# Altium schematic symbol library DR-WiFi Servo.SchLib: 23 symbols
Pins are listed as number, name and electrical type; pins without a type are passive.

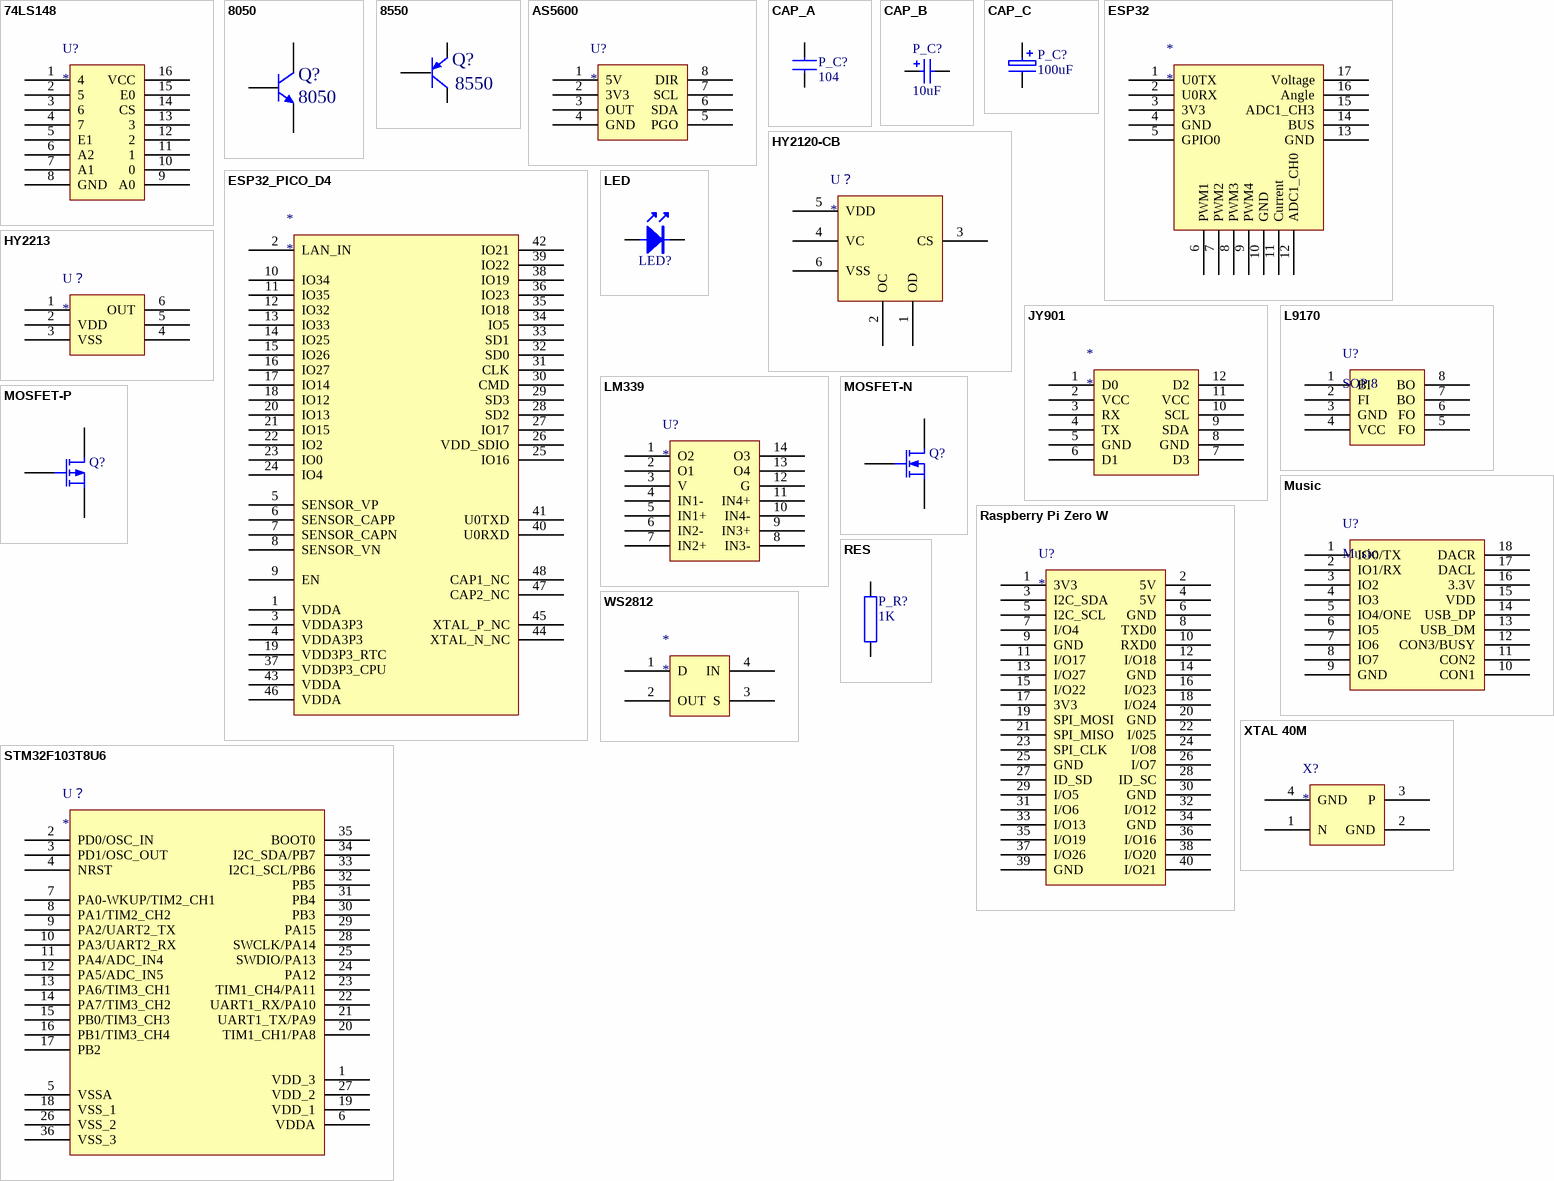
[diagram p0: symbols 74LS148 to XTAL 40M]

## 74LS148
designator U?
footprint LC-SOP-16_150mil
pins: 1 4, 2 5, 3 6, 4 7, 5 E1, 6 A2, 7 A1, 8 GND, 9 A0, 10 0, 11 1, 12 2, 13 3, 14 CS, 15 E0, 16 VCC

## 8050
designator Q?
NPN General Purpose Amplifier; Published: 8-Jun-2000; LatestRevisionDate: 15-Jan-2003; LatestRevisionNote: PCB Footprint 'BCY-W3/D4.7' replaced; DatasheetDocument: 1997; PackageDocument: Sep-1998; PackageReference: TO-92A; Publisher: Altium Limited; Code_JEDEC: TO-92A; ComponentLink1Description: Manufacturer Link; ComponentLink1URL: http://www.fairchildsemi.com/; ComponentLink2Description: Datasheet; ComponentLink2URL: http://www.fairchildsemi.com/ds/2N%2F2N3904.pdf
footprint TANS (TO, Flat Index; 3 In-Line, Axial Leads; Body Dia. 4.5mm; Leads 0.51 x 0.48 mm (max))
pins: 1 E, 2 B, 3 C

## 8550
designator Q?
PNP Transistor
footprint TANS (TO, Flat Index; 3 In-Line, Axial Leads; Body Dia. 4.5mm; Leads 0.51 x 0.48 mm (max))
pins: 1 E, 2 B, 3 C

## AS5600
designator U?
footprint SOP-8 1
pins: 1 5V, 2 3V3, 3 OUT, 4 GND, 5 PGO, 6 SDA, 7 SCL, 8 DIR

## CAP_A
designator P_C?, comment 104
Capacitor_0603
footprint Cap_0603
pins: 1, 2
2 alternate drawings of the same symbol

## CAP_B
designator P_C?  value 10uF  (hidden comment: CAP_B)
Polarized Capacitor (Radial); Published: 8-Jun-2000; LatestRevisionDate: 17-Jul-2002; LatestRevisionNote: Re-released for DXP Platform.; PackageReference: RB7.6-15; Publisher: Altium Limited; PackageDescription: Polarized Capacitor (Radial); 2 Leads
pins: 1, 2
1 alternate drawing of the same symbol

## CAP_C
designator P_C?, comment 100uF
Electrolytic Capacitor
pins: 1, 2

## ESP32
designator *
pins: 1 U0TX, 2 U0RX, 3 3V3, 4 GND, 5 GPIO0, 6 PWM1, 7 PWM2, 8 PWM3, 9 PWM4, 10 GND, 11 Current, 12 ADC1_CH0, 13 GND, 14 BUS, 15 ADC1_CH3, 16 Angle, 17 Voltage

## ESP32_PICO_D4
designator *
footprint LC-QFN-48_7x7x05P
footprint ESP32-PICO-D4
pins: 1 VDDA, 2 LAN_IN, 3 VDDA3P3, 4 VDDA3P3, 5 SENSOR_VP, 6 SENSOR_CAPP, 7 SENSOR_CAPN, 8 SENSOR_VN, 9 EN, 10 IO34, 11 IO35, 12 IO32, 13 IO33, 14 IO25, 15 IO26, 16 IO27, 17 IO14, 18 IO12, 19 VDD3P3_RTC, 20 IO13, 21 IO15, 22 IO2, 23 IO0, 24 IO4, 25 IO16, 26 VDD_SDIO, 27 IO17, 28 SD2, 29 SD3, 30 CMD, 31 CLK, 32 SD0, 33 SD1, 34 IO5, 35 IO18, 36 IO23, 37 VDD3P3_CPU, 38 IO19, 39 IO22, 40 U0RXD, 41 U0TXD, 42 IO21, 43 VDDA, 44 XTAL_N_NC, 45 XTAL_P_NC, 46 VDDA, 47 CAP2_NC, 48 CAP1_NC

## HY2120-CB
designator U？
footprint LC-SOT-23-6
pins: 1 OD, 2 OC, 3 CS, 4 VC, 5 VDD, 6 VSS

## HY2213
designator U？
footprint LC-SOT-23-6
pins: 1, 2 VDD, 3 VSS, 4, 5, 6 OUT

## JY901
designator *
footprint JY901
pins: 1 D0, 2 VCC, 3 RX, 4 TX, 5 GND, 6 D1, 7 D3, 8 GND, 9 SDA, 10 SCL, 11 VCC, 12 D2

## L9170
designator U?, comment SOP 8
footprint SOP-8 1
pins: 1 BI, 2 FI, 3 GND, 4 VCC, 5 FO, 6 FO, 7 BO, 8 BO

## LED
designator LED?  (value not drawn)
footprint LED_0603
pins: A 1, K 2
2 alternate drawings of the same symbol

## LM339
designator U?
footprint LC-SOP-14_150mil
pins: 1 O2, 2 O1, 3 V, 4 IN1-, 5 IN1+, 6 IN2-, 7 IN2+, 8 IN3-, 9 IN3+, 10 IN4-, 11 IN4+, 12 G, 13 O4, 14 O3

## MOSFET-N
designator Q?
N-Channel MOSFET; PackageDocument: 1995/1996; Published: 8-Jun-2000; LatestRevisionDate: 17-Jul-2002; LatestRevisionNote: Re-released for DXP Platform.; PackageReference: E3; Publisher: Altium Limited
footprint E3 (TO, Flat Index; 3 In-Line, Axial Leads; Body Dia. 4.6mm; Lead Dia. 0.5 mm (max))
simulation model NMOS (MOSFET-N)
pins: 1 D, 2 G, 3 S

## MOSFET-P
designator Q?
P-Channel MOSFET; PackageDocument: 1995/1996; Published: 8-Jun-2000; LatestRevisionDate: 17-Jul-2002; LatestRevisionNote: Re-released for DXP Platform.; PackageReference: E3; Publisher: Altium Limited
footprint E3 (TO, Flat Index; 3 In-Line, Axial Leads; Body Dia. 4.6mm; Lead Dia. 0.5 mm (max))
simulation model PMOS (MOSFET-P)
pins: 1 D, 2 G, 3 S

## Music
designator U?
footprint Music
pins: 1 IO0/TX, 2 IO1/RX, 3 IO2, 4 IO3, 5 IO4/ONE, 6 IO5, 7 IO6, 8 IO7, 9 GND, 10 CON1, 11 CON2, 12 CON3/BUSY, 13 USB_DM, 14 USB_DP, 15 VDD, 16 3.3V, 17 DACL, 18 DACR

## Raspberry Pi Zero W
designator U?
footprint 2.54 2*20PIN
pins: 1 3V3, 2 5V, 3 I2C_SDA, 4 5V, 5 I2C_SCL, 6 GND, 7 I/O4, 8 TXD0, 9 GND, 10 RXD0, 11 I/O17, 12 I/O18, 13 I/O27, 14 GND, 15 I/O22, 16 I/O23, 17 3V3, 18 I/O24, 19 SPI_MOSI, 20 GND, 21 SPI_MISO, 22 I/025, 23 SPI_CLK, 24 I/O8, 25 GND, 26 I/O7, 27 ID_SD, 28 ID_SC, 29 I/O5, 30 GND, 31 I/O6, 32 I/O12, 33 I/O13, 34 GND, 35 I/O19, 36 I/O16, 37 I/O26, 38 I/O20, 39 GND, 40 I/O21

## RES
designator P_R?, comment 1K
Resistor
footprint Res_0603
pins: 1 TOP, 2 BOT
2 alternate drawings of the same symbol

## STM32F103T8U6
designator U？
footprint LC-QFN-36_6x6x05P
pins: 1 VDD_3, 2 PD0/OSC_IN, 3 PD1/OSC_OUT, 4 NRST, 5 VSSA, 6 VDDA, 7 PA0-WKUP/TIM2_CH1, 8 PA1/TIM2_CH2, 9 PA2/UART2_TX, 10 PA3/UART2_RX, 11 PA4/ADC_IN4, 12 PA5/ADC_IN5, 13 PA6/TIM3_CH1, 14 PA7/TIM3_CH2, 15 PB0/TIM3_CH3, 16 PB1/TIM3_CH4, 17 PB2, 18 VSS_1, 19 VDD_1, 20 TIM1_CH1/PA8, 21 UART1_TX/PA9, 22 UART1_RX/PA10, 23 TIM1_CH4/PA11, 24 PA12, 25 SWDIO/PA13, 26 VSS_2, 27 VDD_2, 28 SWCLK/PA14, 29 PA15, 30 PB3, 31 PB4, 32 PB5, 33 I2C1_SCL/PB6, 34 I2C_SDA/PB7, 35 BOOT0, 36 VSS_3

## WS2812
designator *
footprint WS2812-5050
pins: 1 D, 2 OUT, 3 S, 4 IN

## XTAL 40M
designator X?
footprint SMD-3225
pins: 1 N, 2 GND, 3 P, 4 GND